# Altium footprint library CP_RADIAL_D10.0_P5.0_H10.5.PcbLib: 1 footprints
Each footprint in its own frame and in the unit in brackets; x right, y up, seen from the top. Pads: shape width x height; smd on the part's side, far side on the other; paste and mask are expansions set on the pad; w line width, h text height; cw(c..) or ccw(c..) is an arc to the next point about the centre after c.
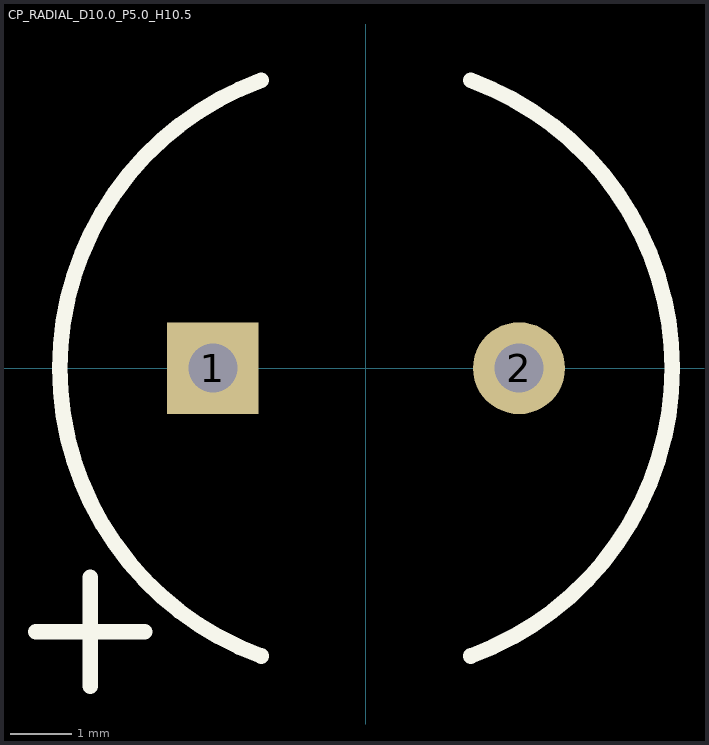
[diagram p0: the footprint, top view; thin cyan lines are the x and y axes]

## CP_RADIAL_D10.0_P5.0_H10.5 [mm] "2 Leaded Al Cap, 5mm spacing, 10.0mm diameter"
height 20
pads (2):
  rect 1.5x1.5 hole 0.8: 1(-2.5,0)
  round 1.5 hole 0.8: 2(2.5,0)
Top Overlay:
  lines w0.254: -5.389,-4.3 -3.611,-4.3 ; -4.5,-5.189 -4.5,-3.411 ; -1.71,-4.698 cw(c0,0) -1.71,4.698 ; 1.71,-4.698 ccw(c0,0) 1.71,4.698
3D body: height 10.5, standoff 0, extent -5,-5 5,5